# Altium footprint library ICs.PcbLib: 4 footprints
Each footprint in its own frame and in the unit in brackets; x right, y up, seen from the top. Pads: shape width x height; smd on the part's side, far side on the other; paste and mask are expansions set on the pad; w line width, h text height; cw(c..) or ccw(c..) is an arc to the next point about the centre after c.
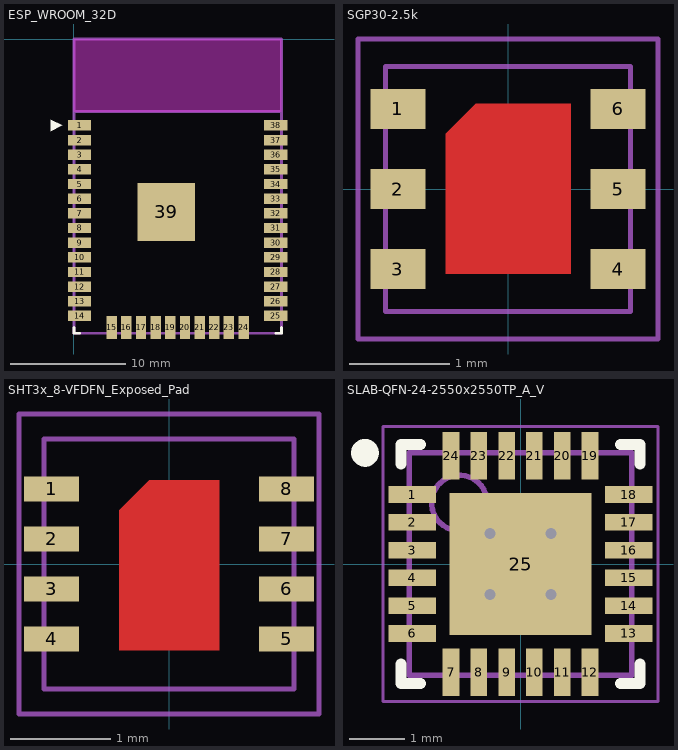
[diagram p0: the footprints below, top view; thin cyan lines are the x and y axes]

## ESP_WROOM_32D [mm] "ESP32 SoM"
pads (39):
  rect 2x0.9 smd: 1(0.5,-7.49) 2(0.5,-8.76) 3(0.5,-10.03) 4(0.5,-11.3) 5(0.5,-12.57) 6(0.5,-13.84) 7(0.5,-15.11) 8(0.5,-16.38) 9(0.5,-17.65) 10(0.5,-18.92) 11(0.5,-20.19) 12(0.5,-21.46) 13(0.5,-22.73) 14(0.5,-24) 25(17.5,-24) 26(17.5,-22.73) 27(17.5,-21.46) 28(17.5,-20.19) 29(17.5,-18.92) 30(17.5,-17.65) 31(17.5,-16.38) 32(17.5,-15.11) 33(17.5,-13.84) 34(17.5,-12.57) 35(17.5,-11.3) 36(17.5,-10.03) 37(17.5,-8.76) 38(17.5,-7.49)
  rect 0.9x2 smd: 15(3.285,-25) 16(4.555,-25) 17(5.825,-25) 18(7.095,-25) 19(8.365,-25) 20(9.635,-25) 21(10.905,-25) 22(12.175,-25) 23(13.445,-25) 24(14.715,-25)
  rect 5x5 smd: 39(8,-14.99)
Top Overlay:
  region: -1,-7.49 -2,-6.99 -2,-7.99
  lines w0.254: 0,-25 0,-25.5 0.5,-25.5 ; 17.5,-25.5 18,-25.5 18,-25
Keep-Out Layer:
  region: 0,0 18,0 18,-6.3 0,-6.3
Mechanical 13:
  lines w0.254: 0,0 0,-25.5 18,-25.5 18,-6.3 ; 0,0 0,-6.3 18,-6.3 ; 0,0 18,0 18,-6.3
3D body "ESP321.SLDPRT": height 2.91, standoff -0.01, extent 0,-25.5 18,0

## SGP30-2.5k [mm] "6-pin DFN package: 2.45 x 2.45 x 0.9 mm"
pads (6):
  rect 0.55x0.4 smd: 1(-1.1,0.8) 2(-1.1,0) 3(-1.1,-0.8) 4(1.1,-0.8) 5(1.1,0) 6(1.1,0.8)
Top Layer:
  region: -0.625,-0.85 -0.625,0.55 -0.325,0.85 0.625,0.85 0.625,-0.85
Mechanical 13:
  lines w0.05: -1.225,-1.225 -1.225,1.225 1.225,1.225 1.225,-1.225 -1.225,-1.225
Mechanical 15:
  lines w0.05: -1.5,-1.5 -1.5,1.5 1.5,1.5 1.5,-1.5 -1.5,-1.5
3D body "SGP30.STEP": height 0.9, standoff 0, extent -1.226,-1.225 1.226,1.225

## SHT3x_8-VFDFN_Exposed_Pad [mm] "Sensirion SHT3x 8-DFN"
pads (8):
  rect 0.55x0.25 smd: 1(-1.175,0.75) 2(-1.175,0.25) 3(-1.175,-0.25) 4(-1.175,-0.75) 5(1.175,-0.75) 6(1.175,-0.25) 7(1.175,0.25) 8(1.175,0.75)
Top Layer:
  region: -0.5,0.537 -0.5,-0.863 0.5,-0.863 0.5,0.838 -0.2,0.838
Mechanical 13:
  lines w0.05: -1.25,-1.25 1.25,-1.25 1.25,1.25 -1.25,1.25 -1.25,-1.25
Mechanical 15:
  lines w0.05: -0.25,0 0,0 ; 0,-0.25 0,0 ; 0,0.25 0,0 ; 0.25,0 0,0 ; -1.5,-1.5 1.5,-1.5 1.5,1.5 -1.5,1.5 -1.5,-1.5
3D body "User Library-SHT3x.STEP": height 0.9, standoff -0.01, extent -1.26,-1.25 1.26,1.25

## SLAB-QFN-24-2550x2550TP_A_V [mm] "QFN, 6-Leads, Body 4x4mm, Pitch 0.5mm, Thermal Pad 2.55x2.55mm"
height 0.8
pads (25):
  rect 0.85x0.3 smd: 1(-1.95,1.25) 2(-1.95,0.75) 3(-1.95,0.25) 4(-1.95,-0.25) 5(-1.95,-0.75) 6(-1.95,-1.25) 13(1.95,-1.25) 14(1.95,-0.75) 15(1.95,-0.25) 16(1.95,0.25) 17(1.95,0.75) 18(1.95,1.25)
  rect 0.3x0.85 smd: 7(-1.25,-1.95) 8(-0.75,-1.95) 9(-0.25,-1.95) 10(0.25,-1.95) 11(0.75,-1.95) 12(1.25,-1.95) 19(1.25,1.95) 20(0.75,1.95) 21(0.25,1.95) 22(-0.25,1.95) 23(-0.75,1.95) 24(-1.25,1.95)
  rect 2.55x2.55 smd: 25(0,0)
via -0.55,0.55 diameter 0.5 hole 0.2
via 0.55,0.55 diameter 0.5 hole 0.2
via -0.55,-0.55 diameter 0.5 hole 0.2
via 0.55,-0.55 diameter 0.5 hole 0.2
Top Overlay:
  circle w0.25: c-2.8,2 r0.125
  lines w0.2: -2.15,-1.8 -2.15,-2.15 -1.8,-2.15 ; -2.15,1.8 -2.15,2.15 -1.8,2.15 ; 1.8,-2.15 2.15,-2.15 2.15,-1.8 ; 1.8,2.15 2.15,2.15 2.15,1.8
Mechanical 13:
  circle w0.1: c-1.1,1.1 r0.5
  lines w0.1: -2,-2 -2,2 2,2 2,-2 -2,-2
Mechanical 15:
  lines w0.05: -2.475,-2.475 -2.475,2.475 2.475,2.475 2.475,-2.475 -2.475,-2.475
  lines w0.1: -0.5,0 0.5,0 ; 0,-0.5 0,0.5
3D body "QFN50P400X400X80_HS-25L.step": height 0.8, standoff 0, extent -2.001,-2.001 2.001,2.001